# EAGLE library part ATMEGA32A-PU (library 55percent)
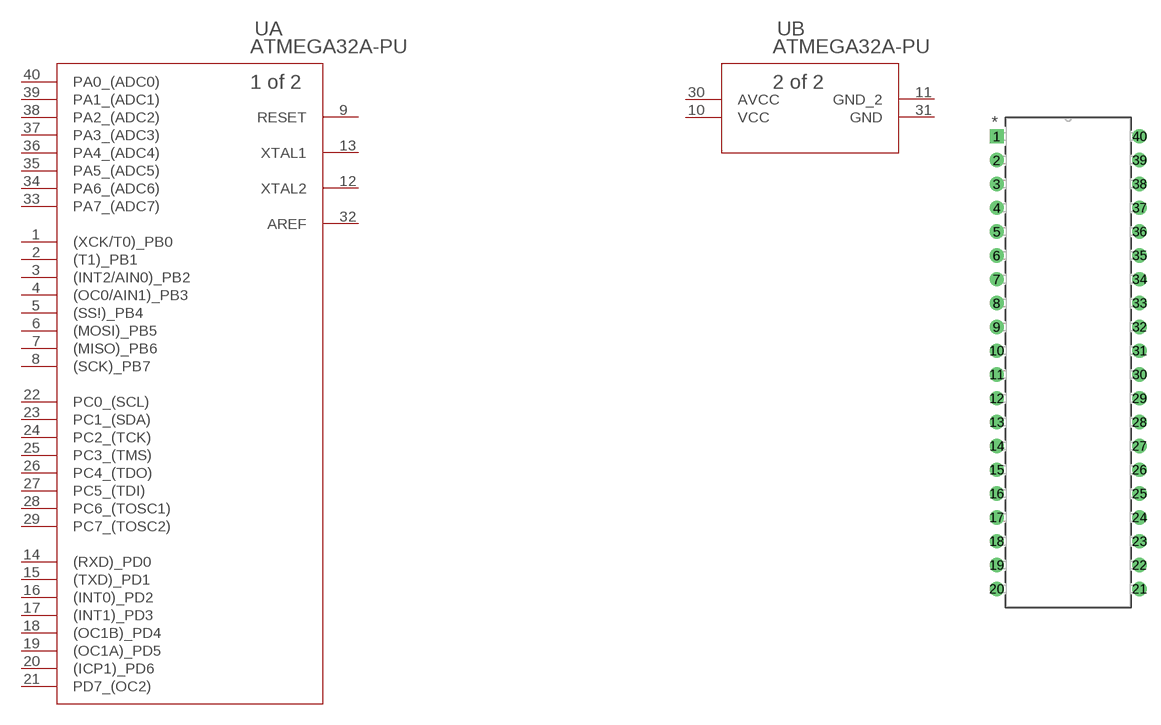
[diagram p1: symbol with the pads of 40P6; footprint 40P6]

Designator prefix U; gates A=ATMEGA32A-PU B=ATMEGA32A-PU_A

## ATMEGA32A-PU (BUILT_BY: EMA_UL_Team; MANUFACTURER_PART_NUMBER: ATMEGA32A-PU; VENDOR: Atmel)  [40P6]
1  A:(XCK/T0)_PB0
2  A:(T1)_PB1
3  A:(INT2/AIN0)_PB2
4  A:(OC0/AIN1)_PB3
5  A:(SS!)_PB4
6  A:(MOSI)_PB5
7  A:(MISO)_PB6
8  A:(SCK)_PB7
9  A:RESET  in
10  B:VCC  pwr
11  B:GND_2  pwr
12  A:XTAL2  out
13  A:XTAL1  in
14  A:(RXD)_PD0
15  A:(TXD)_PD1
16  A:(INT0)_PD2
17  A:(INT1)_PD3
18  A:(OC1B)_PD4
19  A:(OC1A)_PD5
20  A:(ICP1)_PD6
21  A:PD7_(OC2)
22  A:PC0_(SCL)
23  A:PC1_(SDA)
24  A:PC2_(TCK)
25  A:PC3_(TMS)
26  A:PC4_(TDO)
27  A:PC5_(TDI)
28  A:PC6_(TOSC1)
29  A:PC7_(TOSC2)
30  B:AVCC  pwr
31  B:GND  pwr
32  A:AREF  pas
33  A:PA7_(ADC7)
34  A:PA6_(ADC6)
35  A:PA5_(ADC5)
36  A:PA4_(ADC4)
37  A:PA3_(ADC3)
38  A:PA2_(ADC2)
39  A:PA1_(ADC1)
40  A:PA0_(ADC0)

## Footprint 40P6 (pad centres in mm)
drill 0.813 pad 1.524 square: 1 -15.24,48.26
drill 0.813 pad 1.524: 2 -15.24,45.72; 3 -15.24,43.18; 4 -15.24,40.64; 5 -15.24,38.1; 6 -15.24,35.56; 7 -15.24,33.02; 8 -15.24,30.48; 9 -15.24,27.94; 10 -15.24,25.4; 11 -15.24,22.86; 12 -15.24,20.32; 13 -15.24,17.78; 14 -15.24,15.24; 15 -15.24,12.7; 16 -15.24,10.16; 17 -15.24,7.62; 18 -15.24,5.08; 19 -15.24,2.54; 20 -15.24,0; 21 0,0; 22 0,2.54; 23 0,5.08; 24 0,7.62; 25 0,10.16; 26 0,12.7; 27 0,15.24; 28 0,17.78; 29 0,20.32; 30 0,22.86; 31 0,25.4; 32 0,27.94; 33 0,30.48; 34 0,33.02; 35 0,35.56; 36 0,38.1; 37 0,40.64; 38 0,43.18; 39 0,45.72; 40 0,48.26